# Altium footprint library TFTLCD_2.4.PcbLib: 1 footprints
Each footprint in its own frame and in the unit in brackets; x right, y up, seen from the top. Pads: shape width x height; smd on the part's side, far side on the other; paste and mask are expansions set on the pad; w line width, h text height; cw(c..) or ccw(c..) is an arc to the next point about the centre after c.
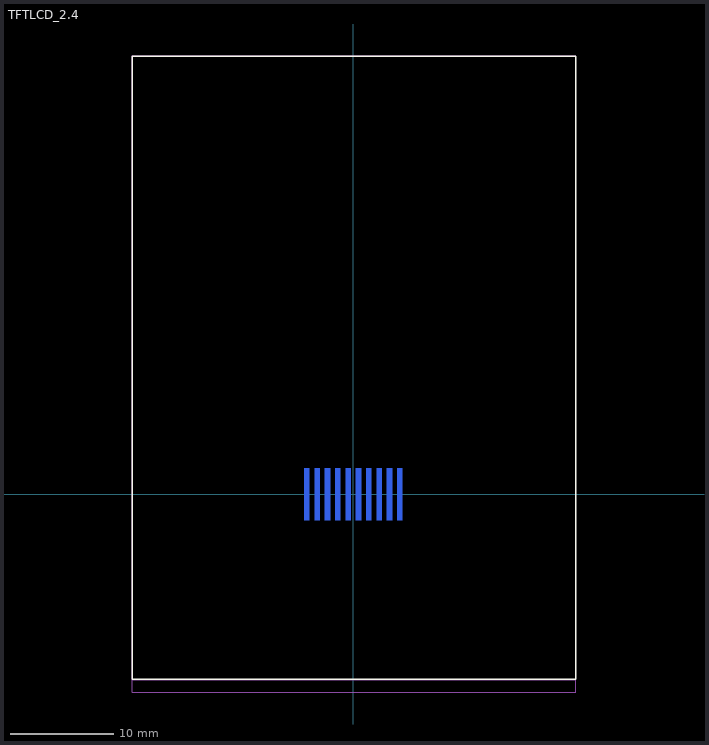
[diagram p0: the footprint, top view; thin cyan lines are the x and y axes]

## TFTLCD_2.4 [mm] "Pitch1mm Body62.26X42.72mm High 2.45mm"
height 2.45
pads (10):
  rect 0.5x5 smd far side: 1(4.5,0) 2(3.5,0) 3(2.5,0) 4(1.5,0) 5(0.5,0) 6(-0.5,0) 7(-1.5,0) 8(-2.5,0) 9(-3.5,0) 10(-4.5,0)
Bottom Layer:
  text "1" at 5.083,2.159 h0.8
  text "10" at -5.787,2.159 h0.8
Top Overlay:
  lines w0.152: -21.37,-17.89 21.518,-17.89 21.518,42.38 -21.37,42.38 -21.37,-17.89
Bottom Overlay:
  lines w0.152: -7.021,-2.54 -7.021,-0.5 ; -7.02,-0.5 cw(c-6.52,-0.5) -6.52,0 -5.076,0 ; 5.076,0 6.633,0 cw(c6.633,-0.5) 7.133,-0.5 ; 7.131,-2.54 7.131,-0.5
Mechanical 13:
  lines w0.1: -21.37,-19.137 -21.37,42.38 21.518,42.38 21.518,-19.137 -21.37,-19.137
Mechanical 15:
  lines w0.1: -21.396,-17.916 -21.396,42.406 21.518,42.406 21.518,-17.916 -21.396,-17.916
3D body: height 2.45, standoff -1.67, extent -21.408,-19.137 21.512,42.373